# EAGLE library part TQFP32_100P (library kxnStandard_TestBoard)
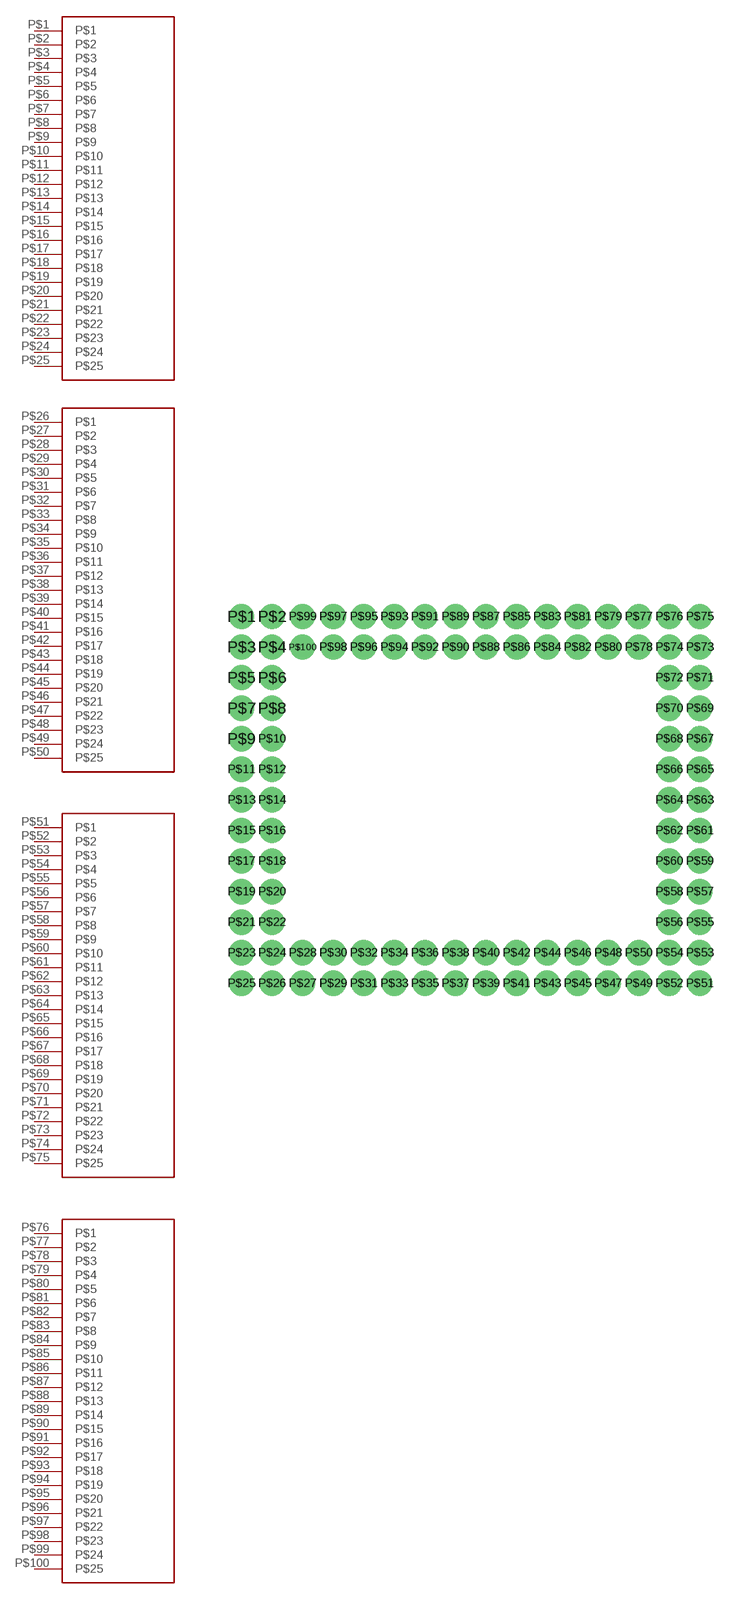
[diagram p0: symbol with the pads of TQFP_32_100PIN_DIP; footprint TQFP_32_100PIN_DIP]

Designator prefix -; gates G$1=25P G$2=25P G$3=25P G$4=25P

## TQFP32_100P  [TQFP_32_100PIN_DIP]
P$1  G$1:P$1
P$2  G$1:P$2
P$3  G$1:P$3
P$4  G$1:P$4
P$5  G$1:P$5
P$6  G$1:P$6
P$7  G$1:P$7
P$8  G$1:P$8
P$9  G$1:P$9
P$10  G$1:P$10
P$11  G$1:P$11
P$12  G$1:P$12
P$13  G$1:P$13
P$14  G$1:P$14
P$15  G$1:P$15
P$16  G$1:P$16
P$17  G$1:P$17
P$18  G$1:P$18
P$19  G$1:P$19
P$20  G$1:P$20
P$21  G$1:P$21
P$22  G$1:P$22
P$23  G$1:P$23
P$24  G$1:P$24
P$25  G$1:P$25
P$26  G$2:P$1
P$27  G$2:P$2
P$28  G$2:P$3
P$29  G$2:P$4
P$30  G$2:P$5
P$31  G$2:P$6
P$32  G$2:P$7
P$33  G$2:P$8
P$34  G$2:P$9
P$35  G$2:P$10
P$36  G$2:P$11
P$37  G$2:P$12
P$38  G$2:P$13
P$39  G$2:P$14
P$40  G$2:P$15
P$41  G$2:P$16
P$42  G$2:P$17
P$43  G$2:P$18
P$44  G$2:P$19
P$45  G$2:P$20
P$46  G$2:P$21
P$47  G$2:P$22
P$48  G$2:P$23
P$49  G$2:P$24
P$50  G$2:P$25
P$51  G$3:P$1
P$52  G$3:P$2
P$53  G$3:P$3
P$54  G$3:P$4
P$55  G$3:P$5
P$56  G$3:P$6
P$57  G$3:P$7
P$58  G$3:P$8
P$59  G$3:P$9
P$60  G$3:P$10
P$61  G$3:P$11
P$62  G$3:P$12
P$63  G$3:P$13
P$64  G$3:P$14
P$65  G$3:P$15
P$66  G$3:P$16
P$67  G$3:P$17
P$68  G$3:P$18
P$69  G$3:P$19
P$70  G$3:P$20
P$71  G$3:P$21
P$72  G$3:P$22
P$73  G$3:P$23
P$74  G$3:P$24
P$75  G$3:P$25
P$76  G$4:P$1
P$77  G$4:P$2
P$78  G$4:P$3
P$79  G$4:P$4
P$80  G$4:P$5
P$81  G$4:P$6
P$82  G$4:P$7
P$83  G$4:P$8
P$84  G$4:P$9
P$85  G$4:P$10
P$86  G$4:P$11
P$87  G$4:P$12
P$88  G$4:P$13
P$89  G$4:P$14
P$90  G$4:P$15
P$91  G$4:P$16
P$92  G$4:P$17
P$93  G$4:P$18
P$94  G$4:P$19
P$95  G$4:P$20
P$96  G$4:P$21
P$97  G$4:P$22
P$98  G$4:P$23
P$99  G$4:P$24
P$100  G$4:P$25

## Footprint TQFP_32_100PIN_DIP (pad centres in mm)
drill 1.4 pad 1.8: P$1 -19.05,15.24; P$2 -16.51,15.24; P$3 -19.05,12.7; P$4 -16.51,12.7; P$5 -19.05,10.16; P$6 -16.51,10.16; P$7 -19.05,7.62; P$8 -16.51,7.62; P$9 -19.05,5.08; P$10 -16.51,5.08; P$11 -19.05,2.54; P$12 -16.51,2.54; P$13 -19.05,0; P$14 -16.51,0; P$15 -19.05,-2.54; P$16 -16.51,-2.54; P$17 -19.05,-5.08; P$18 -16.51,-5.08; P$19 -19.05,-7.62; P$20 -16.51,-7.62; P$21 -19.05,-10.16; P$22 -16.51,-10.16; P$23 -19.05,-12.7; P$24 -16.51,-12.7; P$25 -19.05,-15.24; P$26 -16.51,-15.24; P$27 -13.97,-15.24; P$28 -13.97,-12.7; P$29 -11.43,-15.24; P$30 -11.43,-12.7; P$31 -8.89,-15.24; P$32 -8.89,-12.7; P$33 -6.35,-15.24; P$34 -6.35,-12.7; P$35 -3.81,-15.24; P$36 -3.81,-12.7; P$37 -1.27,-15.24; P$38 -1.27,-12.7; P$39 1.27,-15.24; P$40 1.27,-12.7; P$41 3.81,-15.24; P$42 3.81,-12.7; P$43 6.35,-15.24; P$44 6.35,-12.7; P$45 8.89,-15.24; P$46 8.89,-12.7; P$47 11.43,-15.24; P$48 11.43,-12.7; P$49 13.97,-15.24; P$50 13.97,-12.7; P$51 19.05,-15.24; P$52 16.51,-15.24; P$53 19.05,-12.7; P$54 16.51,-12.7; P$55 19.05,-10.16; P$56 16.51,-10.16; P$57 19.05,-7.62; P$58 16.51,-7.62; P$59 19.05,-5.08; P$60 16.51,-5.08; P$61 19.05,-2.54; P$62 16.51,-2.54; P$63 19.05,0; P$64 16.51,0; P$65 19.05,2.54; P$66 16.51,2.54; P$67 19.05,5.08; P$68 16.51,5.08; P$69 19.05,7.62; P$70 16.51,7.62; P$71 19.05,10.16; P$72 16.51,10.16; P$73 19.05,12.7; P$74 16.51,12.7; P$75 19.05,15.24; P$76 16.51,15.24; P$77 13.97,15.24; P$78 13.97,12.7; P$79 11.43,15.24; P$80 11.43,12.7; P$81 8.89,15.24; P$82 8.89,12.7; P$83 6.35,15.24; P$84 6.35,12.7; P$85 3.81,15.24; P$86 3.81,12.7; P$87 1.27,15.24; P$88 1.27,12.7; P$89 -1.27,15.24; P$90 -1.27,12.7; P$91 -3.81,15.24; P$92 -3.81,12.7; P$93 -6.35,15.24; P$94 -6.35,12.7; P$95 -8.89,15.24; P$96 -8.89,12.7; P$97 -11.43,15.24; P$98 -11.43,12.7; P$99 -13.97,15.24; P$100 -13.97,12.7